# Altium integrated library MP1584EN.IntLib: 1 symbol
Pins are listed as number, name and electrical type; pins without a type are passive.

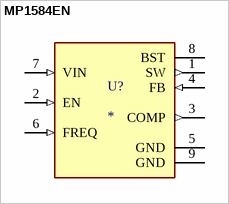
[diagram p0: symbol MP1584EN]

## MP1584EN
designator U?
Buck Switching Regulator IC Positive Adjustable 0.8V 1 Output 3A 8-SOIC (0.154, 3.90mm Width) Exposed Pad; MF: Monolithic Power; MP: MP1584EN; SnapEDA_Link: https://www.snapeda.com/parts/MP1584EN/Monolithic+Power+Systems/view-part/?ref=snap; Package: SOIC-8 Monolithic Power; Value: *; Check_prices: https://www.snapeda.com/parts/MP1584EN/Monolithic+Power+Systems/view-part/?ref=eda
footprint SOIC127P600X170-9N
pins: 1 SW (out), 2 EN (in), 3 COMP (out), 4 FB (in), 5 GND (power), 6 FREQ (in), 7 VIN (in), 8 BST, 9 GND (power)